# Altium footprint library STM32F373BluePill.PcbLib: 15 footprints
Each footprint in its own frame and in the unit in brackets; x right, y up, seen from the top. Pads: shape width x height; smd on the part's side, far side on the other; paste and mask are expansions set on the pad; w line width, h text height; cw(c..) or ccw(c..) is an arc to the next point about the centre after c.
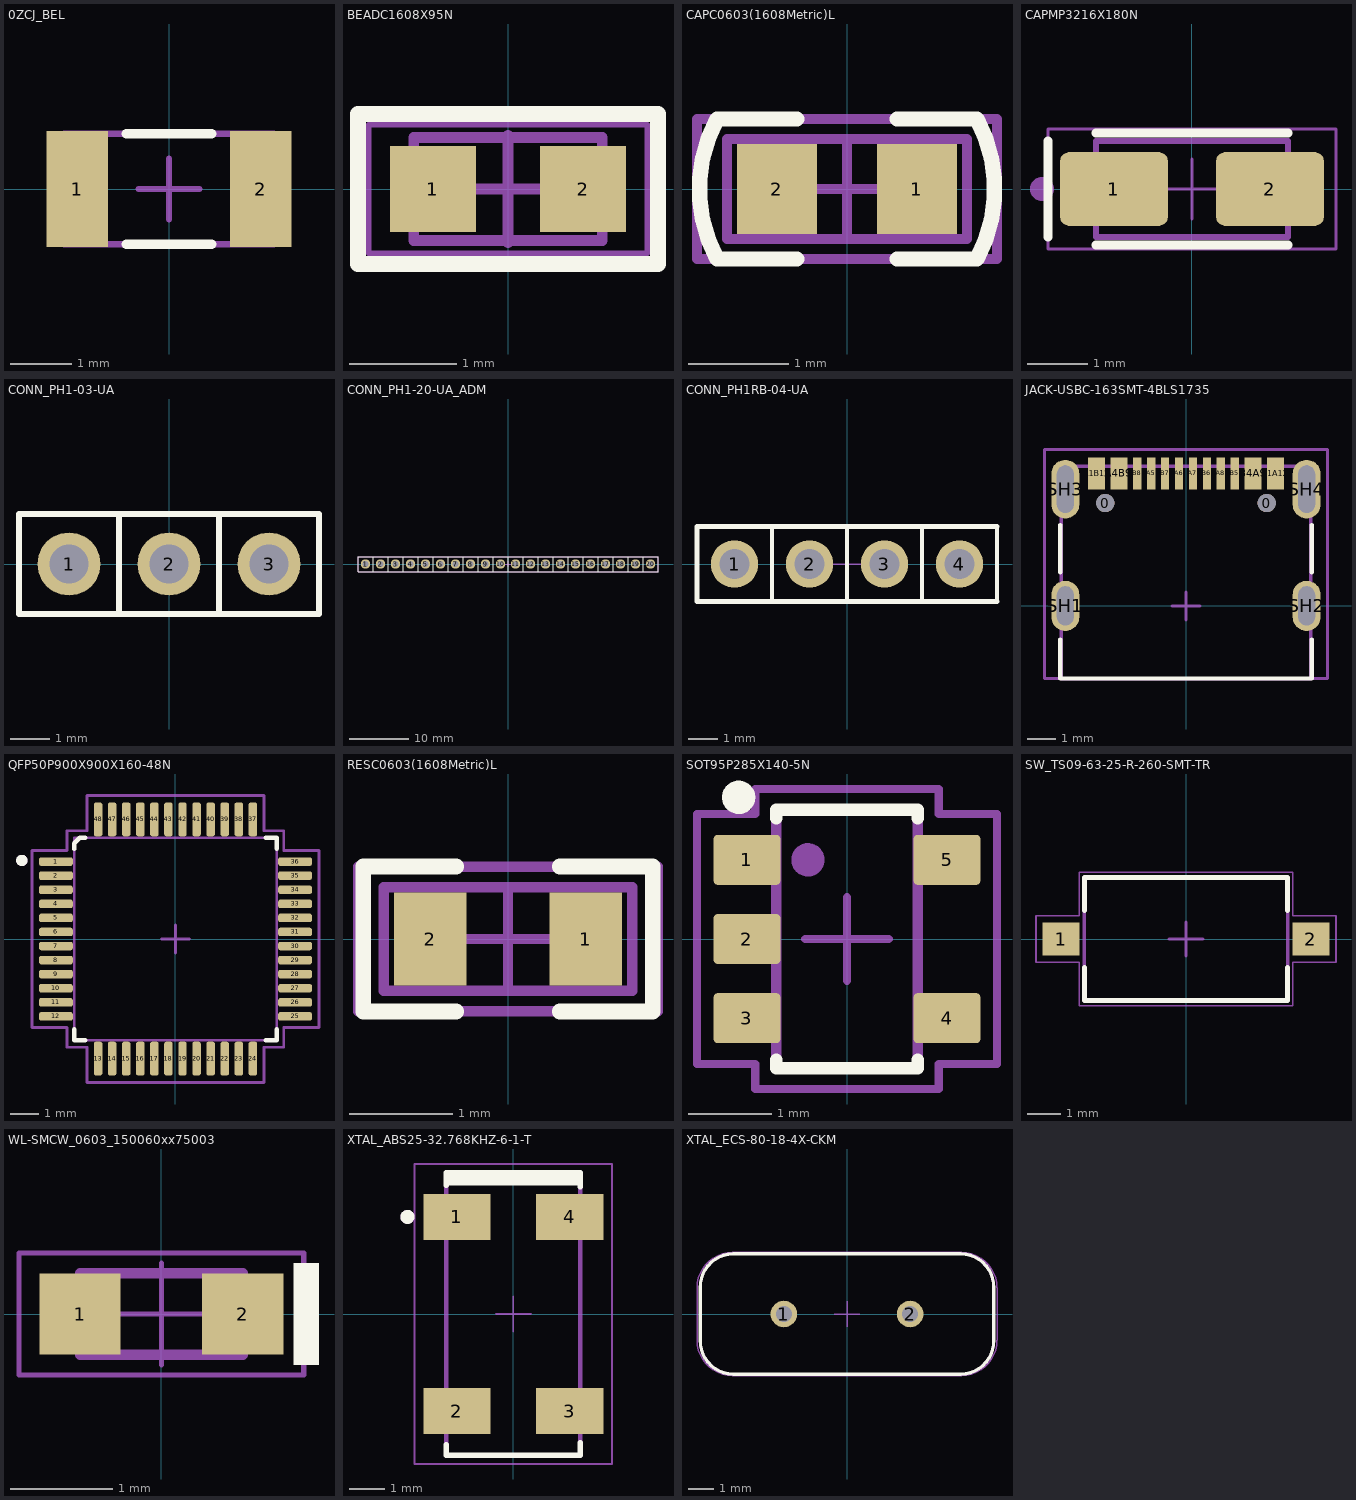
[diagram p0: the footprints below, top view; thin cyan lines are the x and y axes]

## 0ZCJ_BEL [mm]
height 1.2
pads (2):
  rect 1x1.9 smd: 1(-1.5,0) 2(1.5,0)
Top Overlay:
  lines w0.152: -0.7,-0.9 0.7,-0.9 ; -0.7,0.9 0.7,0.9
Top Assembly:
  lines w0.1: -1.714,-0.902 -1.714,0.902 1.714,0.902 1.714,-0.902 -1.714,-0.902
Top Designator:
  text ".Designator" at -1.816,-0.509 h1
Top Value:
  text ".Comment" at -1.916,-0.409 h1
Top Component Center:
  lines w0.1: -0.5,0 0.5,0 ; 0,-0.5 0,0.5
3D body "0ZCJ0050AF2E.step": height 0.87, standoff 0.02, extent -1.625,-0.825 1.625,0.825

## BEADC1608X95N [mm]
pads (2):
  rect 0.8x0.8 smd: 1(-0.7,0) 2(0.7,0)
Top Overlay:
  lines w0.153: -1.4,-0.7 1.4,-0.7 1.4,0.7 -1.4,0.7 -1.4,-0.7
Top Assembly:
  lines w0.1: -0.88,-0.48 -0.88,0.48 0.88,0.48 0.88,-0.48 -0.88,-0.48
Top Designator:
  text ".Designator" at -1.1,-0.3 h1
Top Value:
  text ".Comment" at -1.1,-0.3 h1
Top Courtyard:
  lines w0.05: -1.3,-0.6 -1.3,0.6 1.3,0.6 1.3,-0.6 -1.3,-0.6
Top Component Center:
  lines w0.1: -0.5,0 0.5,0 ; 0,-0.5 0,0.5
3D body "step_temp.STEP": height 0.95, standoff 0, extent -0.8,-0.4 0.8,0.4

## CAPC0603(1608Metric)L [mm] "Chip Capacitor, Body 1.6x0.8mm, IPC High Density"
height 0.85
pads (2):
  rect 0.8x0.9 smd: 1(0.7,0) 2(-0.7,0)
Top Overlay:
  lines w0.153: -0.5,-0.7 -1.3,-0.7 cw(c0,0) -1.3,0.7 -0.5,0.7 ; 0.5,-0.7 1.3,-0.7 ccw(c0,0) 1.3,0.7 0.5,0.7
Top Assembly:
  lines w0.1: -1.2,-0.5 -1.2,0.5 1.2,0.5 1.2,-0.5 -1.2,-0.5
Top Designator:
  text ".Designator" at -1,-0.3 h1
Top Value:
  text ".Comment" at -1.1,-0.3 h1
Top Courtyard:
  lines w0.1: -1.5,-0.7 -1.5,0.7 1.5,0.7 1.5,-0.7 -1.5,-0.7
Top Component Center:
  lines w0.1: -0.5,0 0.5,0 ; 0,-0.5 0,0.5
3D body "GRM188C81C106MA73D.step": height 0.8, standoff 0, extent -0.8,-0.5 0.8,0.5

## CAPMP3216X180N [mm]
height 1.8
pads (2):
  rrect25% 1.8x1.23 smd: 1(-1.3,0) 2(1.3,0)
Top Overlay:
  lines w0.153: -2.4,-0.8 -2.4,0.8 ; -1.6,-0.935 1.6,-0.935 ; -1.6,0.935 1.6,0.935
Top Assembly:
  circle w0.2: c-2.5,0 r0.1
  lines w0.1: -1.6,-0.8 -1.6,0.8 1.6,0.8 1.6,-0.8 -1.6,-0.8
Top Designator:
  text ".Designator" at -1.9,-0.2 h1
Top Value:
  text ".Comment" at -1.9,-0.3 h1
Top Courtyard:
  lines w0.05: -2.4,-1 2.4,-1 2.4,1 -2.4,1 -2.4,-1
Top Component Center:
  lines w0.05: -0.5,0 0.5,0 ; 0,-0.5 0,0.5
3D body "step_temp.STEP": height 1.8, standoff 0, extent -1.6,-0.8 1.6,0.8

## CONN_PH1-03-UA [mm]
height 9.05
pads (3):
  round 1.6 hole 1: 1(-2.54,0) 2(0,0) 3(2.54,0)
Top Overlay:
  lines w0.15: -1.27,-1.27 -1.27,1.27 ; 1.27,-1.27 1.27,1.27 ; 3.81,-1.27 3.81,1.27
  lines w0.153: 3.81,-1.27 -3.81,-1.27 -3.81,1.27 3.81,1.27
Top Assembly:
  lines w0.127: -3.81,-1.27 3.81,-1.27 3.81,1.27 -3.81,1.27 -3.81,-1.27
Top Designator:
  text ".Designator" at -3.81,-2.54 h1
Top Value:
  text ".Comment" at -3.81,-2.54 h1
Top Courtyard:
  lines w0.1: -3.81,-1.27 3.81,-1.27 3.81,1.27 -3.81,1.27 -3.81,-1.27
Top Component Center:
  lines w0.05: -0.5,0 0.5,0 ; 0,-0.5 0,0.5
3D body "PH1-03-UA.STEP": height 8.55, standoff -3, extent -3.81,-1.25 3.817,1.25

## CONN_PH1-20-UA_ADM [mm]
height 9.05
pads (20):
  round 1.6 hole 1: 1(-24.13,0) 2(-21.59,0) 3(-19.05,0) 4(-16.51,0) 5(-13.97,0) 6(-11.43,0) 7(-8.89,0) 8(-6.35,0) 9(-3.81,0) 10(-1.27,0) 11(1.27,0) 12(3.81,0) 13(6.35,0) 14(8.89,0) 15(11.43,0) 16(13.97,0) 17(16.51,0) 18(19.05,0) 19(21.59,0) 20(24.13,0)
Top Overlay:
  lines w0.15: -22.86,-1.27 -22.86,1.27 ; -20.32,-1.27 -20.32,1.27 ; -17.78,-1.27 -17.78,1.27 ; -15.24,-1.27 -15.24,1.27 ; -12.7,-1.27 -12.7,1.27 ; -10.16,-1.27 -10.16,1.27 ; -7.62,-1.27 -7.62,1.27 ; -5.08,-1.27 -5.08,1.27 ; -2.54,-1.27 -2.54,1.27 ; 0,-1.27 0,1.27 ; 2.54,-1.27 2.54,1.27 ; 5.08,-1.27 5.08,1.27 ; 7.62,-1.27 7.62,1.27 ; 10.16,-1.27 10.16,1.27 ; 12.7,-1.27 12.7,1.27 ; 15.24,-1.27 15.24,1.27 ; 17.78,-1.27 17.78,1.27 ; 20.32,-1.27 20.32,1.27 ; 22.86,-1.27 22.86,1.27
  lines w0.153: -25.4,-1.27 -25.4,1.27 25.4,1.27 25.4,-1.27 -25.4,-1.27
Top Assembly:
  lines w0.127: -25.4,-1.27 25.4,-1.27 25.4,1.27 -25.4,1.27 -25.4,-1.27
Top Designator:
  text ".Designator" at -25.4,-2.54 h1
Top Value:
  text ".Comment" at -25.4,-2.54 h1
Top Courtyard:
  lines w0.1: -25.4,-1.27 25.4,-1.27 25.4,1.27 -25.4,1.27 -25.4,-1.27
Top Component Center:
  lines w0.05: -0.5,0 0.5,0 ; 0,-0.5 0,0.5
3D body "PH1-20-UA.STEP": height 1.3, standoff -10.25, extent -25.407,-1.25 25.4,1.25

## CONN_PH1RB-04-UA [mm]
height 2.5
pads (4):
  round 1.6 hole 1: 1(-3.81,0) 2(-1.27,0) 3(1.27,0) 4(3.81,0)
Top Overlay:
  lines w0.15: -2.54,-1.27 -2.54,1.27 ; 0,-1.27 0,1.27 ; 2.54,-1.27 2.54,1.27 ; 5.08,-1.27 5.08,1.27
  lines w0.153: 5.08,-1.27 -5.08,-1.27 -5.08,1.27 5.08,1.27
Top Assembly:
  lines w0.127: -5.08,-1.27 -5.08,1.27 5.08,1.27 5.08,-1.27 -5.08,-1.27
Top Designator:
  text ".Designator" at -5.08,-2.54 h1
Top Value:
  text ".Comment" at -5.08,-2.54 h1
Top Courtyard:
  lines w0.1: -5.08,-1.27 -5.08,1.27 5.08,1.27 5.08,-1.27 -5.08,-1.27
Top Component Center:
  lines w0.05: -0.5,0 0.5,0 ; 0,-0.5 0,0.5
3D body "PH1RB-04-UA.STEP": height 2.55, standoff -3, extent -5.084,-9.82 5.084,0.4

## JACK-USBC-163SMT-4BLS1735 [mm]
height 4.26
pads (18):
  round 0.65 hole 0.65 unplated: 0(-2.89,3.68) 0(2.89,3.68)
  rect 0.6x1.15 smd: A1B12(-3.2,4.745) A4B9(-2.4,4.745) B1A12(3.2,4.745) B4A9(2.4,4.745)
  rect 0.3x1.15 smd: A5(-1.25,4.745) A6(-0.25,4.745) A7(0.25,4.745) A8(1.25,4.745) B5(1.75,4.745) B6(0.75,4.745) B7(-0.75,4.745) B8(-1.75,4.745)
  oval 1x1.8 hole 0.6 slot 1.4 at 90 deg: SH1(-4.32,0) SH2(4.32,0)
  oval 1x2.1 hole 0.6 slot 1.7 at 90 deg: SH3(-4.32,4.18) SH4(4.32,4.18)
Top Overlay:
  lines w0.153: -4.5,-1.2 -4.5,-2.6 4.5,-2.6 4.5,-1.2 ; -4.5,1.2 -4.5,2.9 ; 4.5,1.2 4.5,2.9
Top Assembly:
  lines w0.127: -4.47,-2.6 -4.47,5 4.47,5 4.47,-2.6 -4.47,-2.6
Top Designator:
  text ".Designator" at -2.416,-0.209 h1
Top Value:
  text ".Comment" at -1.716,-1.009 h1
Top Courtyard:
  lines w0.1: -5.07,-2.6 -5.07,5.6 5.07,5.6 5.07,-2.6 -5.07,-2.6
Top Component Center:
  lines w0.1: -0.5,0 0.5,0 ; 0,-0.5 0,0.5
3D body "jack-usbc-163smt-4bls1735_asm.stp": height 3.26, standoff -1, extent -4.47,-2.6 4.47,5.05

## QFP50P900X900X160-48N [mm]
pads (48):
  rrect50% 1.2x0.3 smd: 1(-4.25,2.75) 2(-4.25,2.25) 3(-4.25,1.75) 4(-4.25,1.25) 5(-4.25,0.75) 6(-4.25,0.25) 7(-4.25,-0.25) 8(-4.25,-0.75) 9(-4.25,-1.25) 10(-4.25,-1.75) 11(-4.25,-2.25) 12(-4.25,-2.75) 25(4.25,-2.75) 26(4.25,-2.25) 27(4.25,-1.75) 28(4.25,-1.25) 29(4.25,-0.75) 30(4.25,-0.25) 31(4.25,0.25) 32(4.25,0.75) 33(4.25,1.25) 34(4.25,1.75) 35(4.25,2.25) 36(4.25,2.75)
  rrect50% 0.3x1.2 smd: 13(-2.75,-4.25) 14(-2.25,-4.25) 15(-1.75,-4.25) 16(-1.25,-4.25) 17(-0.75,-4.25) 18(-0.25,-4.25) 19(0.25,-4.25) 20(0.75,-4.25) 21(1.25,-4.25) 22(1.75,-4.25) 23(2.25,-4.25) 24(2.75,-4.25) 37(2.75,4.25) 38(2.25,4.25) 39(1.75,4.25) 40(1.25,4.25) 41(0.75,4.25) 42(0.25,4.25) 43(-0.25,4.25) 44(-0.75,4.25) 45(-1.25,4.25) 46(-1.75,4.25) 47(-2.25,4.25) 48(-2.75,4.25)
Top Overlay:
  circle w0.2: c-5.461,2.794 r0.1
  lines w0.153: -3.6,-3.21 -3.6,-3.6 -3.21,-3.6 ; -3.6,3.2 -3.6,3.4 -3.4,3.6 -3.21,3.6 ; 3.21,-3.6 3.6,-3.6 3.6,-3.21 ; 3.21,3.6 3.6,3.6 3.6,3.21
Top Assembly:
  circle w0.2: c-5.461,2.794 r0.1
  lines w0.1: -3.6,-3.6 -3.6,3.6 3.6,3.6 3.6,-3.6 -3.6,-3.6
Top Designator:
  text ".Designator" at -2.416,-0.209 h1
Top Value:
  text ".Comment" at -1.716,-1.009 h1
Top Courtyard:
  lines w0.1: -5.1,-3.14 -3.85,-3.14 -3.85,-3.85 -3.14,-3.85 -3.14,-5.1 3.14,-5.1 3.14,-3.85 3.85,-3.85 3.85,-3.14 5.1,-3.14 5.1,3.14 3.85,3.14 3.85,3.85 3.14,3.85 3.14,5.1 -3.14,5.1 -3.14,3.85 -3.85,3.85 -3.85,3.14 -5.1,3.14 -5.1,-3.14
Top Component Center:
  lines w0.1: -0.5,0 0.5,0 ; 0,-0.5 0,0.5
3D body "LQFP48-7x7mm.step": height 1.6, standoff 0, extent -4.497,-4.497 4.497,4.497

## RESC0603(1608Metric)L [mm] "Chip Resistor, Body 1.6x0.8mm, IPC High Density"
height 0.6
pads (2):
  rect 0.7x0.9 smd: 1(0.75,0) 2(-0.75,0)
Top Overlay:
  lines w0.153: -0.5,-0.7 -1.4,-0.7 -1.4,0.7 -0.5,0.7 ; 0.5,-0.7 1.4,-0.7 1.4,0.7 0.5,0.7
Top Assembly:
  lines w0.1: -1.2,-0.5 1.2,-0.5 1.2,0.5 -1.2,0.5 -1.2,-0.5
Top Designator:
  text ".Designator" at -1.1,-0.3 h1
Top Value:
  text ".Comment" at -1,-0.3 h1
Top Courtyard:
  lines w0.1: -1.45,-0.7 1.45,-0.7 1.45,0.7 -1.45,0.7 -1.45,-0.7
Top Component Center:
  lines w0.1: -0.5,0 0.5,0 ; 0,-0.5 0,0.5
3D body "AC0603FR-070RL.step": height 0.45, standoff 0, extent -0.8,-0.4 0.8,0.4

## SOT95P285X140-5N [mm]
pads (5):
  rrect15% 0.8x0.6 smd: 1(-1.2,0.95) 2(-1.2,0) 3(-1.2,-0.95) 4(1.2,-0.95) 5(1.2,0.95)
Top Overlay:
  circle w0.2: c-1.3,1.7 r0.1
  lines w0.153: -0.85,-1.45 -0.85,-1.55 0.85,-1.55 0.85,-1.45 ; -0.85,1.45 -0.85,1.55 0.85,1.55 0.85,1.45
Top Assembly:
  circle w0.2: c-0.469,0.95 r0.1
  lines w0.127: -0.85,-1.55 -0.85,1.55 0.85,1.55 0.85,-1.55 -0.85,-1.55
Top Designator:
  text ".Designator" at 0.509,-1.716 h1
Top Value:
  text ".Comment" at 0.509,-1.716 h1
Top Courtyard:
  lines w0.1: -1.8,-1.5 -1.1,-1.5 -1.1,-1.8 1.1,-1.8 1.1,-1.5 1.8,-1.5 1.8,1.5 1.1,1.5 1.1,1.8 -1.1,1.8 -1.1,1.5 -1.8,1.5 -1.8,-1.5
Top Component Center:
  lines w0.1: -0.5,0 0.5,0 ; 0,-0.5 0,0.5
3D body "step_temp.STEP": height 1.4, standoff 0, extent -1.4,-1.5 1.4,1.5

## SW_TS09-63-25-R-260-SMT-TR [mm]
height 2.5
pads (2):
  rect 1.1x1 smd: 1(-3.75,0) 2(3.75,0)
Top Overlay:
  lines w0.153: -3.05,-0.85 -3.05,-1.85 3.05,-1.85 3.05,-0.85 ; -3.05,0.85 -3.05,1.85 3.05,1.85 3.05,0.85
Top Assembly:
  lines w0.1: -3.05,-1.85 -3.05,1.85 3.05,1.85 3.05,-1.85 -3.05,-1.85
Top Designator:
  text ".Designator" at -1.716,-0.509 h1
Top Value:
  text ".Comment" at -1.716,-0.509 h1
Top Courtyard:
  lines w0.05: -4.5,-0.7 -4.5,0.7 -3.2,0.7 -3.2,2 3.2,2 3.2,0.7 4.5,0.7 4.5,-0.7 3.2,-0.7 3.2,-2 -3.2,-2 -3.2,-0.7 -4.5,-0.7
Top Component Center:
  lines w0.1: -0.5,0 0.5,0 ; 0,-0.5 0,0.5
3D body "step_temp.STEP": height 2.5, standoff -0.05, extent -4.05,-1.85 4.05,1.85

## WL-SMCW_0603_150060xx75003 [mm] "SMD Mono-color Chip LED, body 1.6x0.8mm"
height 0.7
pads (2):
  rect 0.8x0.8 smd: 1(-0.8,0) 2(0.8,0)
Top Overlay:
  region: 1.55,0.5 1.3,0.5 1.3,-0.5 1.55,-0.5
Top Assembly:
  region: 0.8,0.4 0.5,0.4 0.5,-0.4 0.8,-0.4
  lines w0.1: -0.8,-0.4 -0.8,0.4 0.8,0.4 0.8,-0.4 -0.8,-0.4
Top Designator:
  text ".Designator" at -1.1,-0.3 h0.6
Top Value:
  text ".Comment" at -1.1,-0.3 h0.6
Top Courtyard:
  lines w0.05: -1.4,-0.6 1.4,-0.6 1.4,0.6 -1.4,0.6 -1.4,-0.6
Top Component Center:
  lines w0.05: -0.5,0 0.5,0 ; 0,-0.5 0,0.5
3D body "STP_150060xx75003_rev1.stp": height 0.7, standoff 0, extent -0.8,-0.4 0.8,0.4

## XTAL_ABS25-32.768KHZ-6-1-T [mm]
pads (4):
  rect 1.9x1.3 smd: 1(-1.6,2.75) 2(-1.6,-2.75) 3(1.6,-2.75) 4(1.6,2.75)
Top Overlay:
  circle w0.2: c-3,2.75 r0.1
  region: -1.9,4 1.9,4 1.9,3.6 1.85,3.65 -1.9,3.65
  lines w0.153: -1.9,-3.7 -1.9,-4 1.9,-4 1.9,-3.65 ; -1.9,3.65 -1.9,4 1.9,4 1.9,3.6
Top Assembly:
  circle w0.2: c-3,2.75 r0.1
  lines w0.127: -1.9,-4 -1.9,4 1.9,4 1.9,-4 -1.9,-4
Top Designator:
  text ".Designator" at -1.2,-0.2 h0.6
Top Value:
  text ".Comment" at -1.1,-0.3 h0.6
Top Courtyard:
  lines w0.05: -2.8,-4.25 2.8,-4.25 2.8,4.25 -2.8,4.25 -2.8,-4.25
Top Component Center:
  lines w0.05: -0.5,0 0.5,0 ; 0,-0.5 0,0.5
3D body "step_temp.STEP": height 2.75, standoff 0.09, extent -2,-4 2,4

## XTAL_ECS-80-18-4X-CKM [mm]
pads (2):
  round 1.03 hole 0.63: 1(-2.44,0) 2(2.44,0)
Top Overlay:
  lines w0.127: -5.675,-1.012 ccw(c-4.38,-1.035) -4.403,-2.33 ; -5.675,-1.01 -5.675,1.01 ; -5.675,1.012 cw(c-4.38,1.035) -4.403,2.33 ; -4.405,-2.33 4.405,-2.33 ; -4.405,2.33 4.405,2.33 ; 4.403,-2.33 ccw(c4.38,-1.035) 5.675,-1.012 ; 4.403,2.33 cw(c4.38,1.035) 5.675,1.012 ; 5.675,-1.01 5.675,1.01
Top Designator:
  lines w0.1: -5.675,-1.012 ccw(c-4.38,-1.035) -4.403,-2.33 ; -5.675,-1.01 -5.675,1.01 ; -5.675,1.012 cw(c-4.38,1.035) -4.403,2.33 ; -4.405,-2.33 4.405,-2.33 ; -4.405,2.33 4.405,2.33 ; 4.403,-2.33 ccw(c4.38,-1.035) 5.675,-1.012 ; 4.403,2.33 cw(c4.38,1.035) 5.675,1.012 ; 5.675,-1.01 5.675,1.01
  text ".Designator" at -1.3,0.5 h0.6
Top Value:
  text ".Comment" at -1.2,-0.7 h0.6
Top Courtyard:
  lines w0.05: -5.8,-1.01 ccw(c-4.43,-1.01) -4.43,-2.38 4.43,-2.38 ccw(c4.43,-1.01) 5.8,-1.01 5.8,1.01 ccw(c4.43,1.01) 4.43,2.38 -4.43,2.38 ccw(c-4.43,1.01) -5.8,1.01 -5.8,-1.01
Top Component Center:
  lines w0.05: -0.5,0 0.5,0 ; 0,-0.5 0,0.5
3D body "step_temp.STEP": height 3.5, standoff -12.7, extent -5.671,-2.325 5.679,2.325